# Altium footprint library SAMTEC_QSH-060-01-X-D-A.PcbLib: 1 footprints
Each footprint in its own frame and in the unit in brackets; x right, y up, seen from the top. Pads: shape width x height; smd on the part's side, far side on the other; paste and mask are expansions set on the pad; w line width, h text height; cw(c..) or ccw(c..) is an arc to the next point about the centre after c.
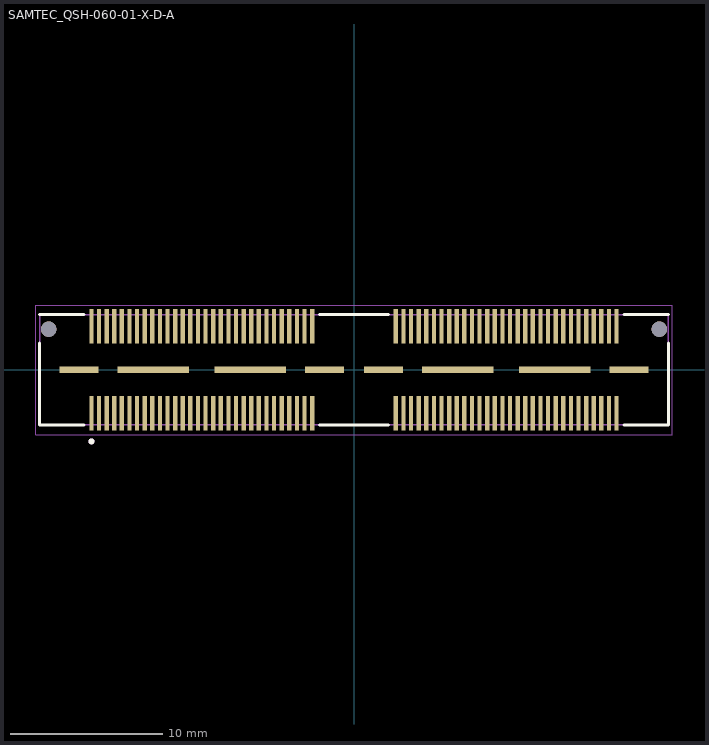
[diagram p0: the footprint, top view; thin cyan lines are the x and y axes]

## SAMTEC_QSH-060-01-X-D-A [mm]
pads (130):
  rect 0.279x2.27 smd: 01(-17.253,-2.865) 02(-17.253,2.865) 03(-16.753,-2.865) 04(-16.753,2.865) 05(-16.253,-2.865) 06(-16.253,2.865) 07(-15.753,-2.865) 08(-15.753,2.865) 09(-15.252,-2.865) 10(-15.252,2.865) 11(-14.752,-2.865) 12(-14.752,2.865) 13(-14.252,-2.865) 14(-14.252,2.865) 15(-13.752,-2.865) 16(-13.752,2.865) 17(-13.252,-2.865) 18(-13.252,2.865) 19(-12.752,-2.865) 20(-12.752,2.865) 21(-12.252,-2.865) 22(-12.252,2.865) 23(-11.752,-2.865) 24(-11.752,2.865) 25(-11.252,-2.865) 26(-11.252,2.865) 27(-10.752,-2.865) 28(-10.752,2.865) 29(-10.252,-2.865) 30(-10.252,2.865) 31(-9.751,-2.865) 32(-9.751,2.865) 33(-9.251,-2.865) 34(-9.251,2.865) 35(-8.751,-2.865) 36(-8.751,2.865) 37(-8.251,-2.865) 38(-8.251,2.865) 39(-7.751,-2.865) 40(-7.751,2.865) 41(-7.251,-2.865) 42(-7.251,2.865) 43(-6.751,-2.865) 44(-6.751,2.865) 45(-6.251,-2.865) 46(-6.251,2.865) 47(-5.751,-2.865) 48(-5.751,2.865) 49(-5.251,-2.865) 50(-5.251,2.865) 51(-4.75,-2.865) 52(-4.75,2.865) 53(-4.25,-2.865) 54(-4.25,2.865) 55(-3.75,-2.865) 56(-3.75,2.865) 57(-3.25,-2.865) 58(-3.25,2.865) 59(-2.75,-2.865) 60(-2.75,2.865) 61(2.75,-2.865) 62(2.75,2.865) 63(3.25,-2.865) 64(3.25,2.865) 65(3.75,-2.865) 66(3.75,2.865) 67(4.25,-2.865) 68(4.25,2.865) 69(4.75,-2.865) 70(4.75,2.865) 71(5.251,-2.865) 72(5.251,2.865) 73(5.751,-2.865) 74(5.751,2.865) 75(6.251,-2.865) 76(6.251,2.865) 77(6.751,-2.865) 78(6.751,2.865) 79(7.251,-2.865) 80(7.251,2.865) 81(7.751,-2.865) 82(7.751,2.865) 83(8.251,-2.865) 84(8.251,2.865) 85(8.751,-2.865) 86(8.751,2.865) 87(9.251,-2.865) 88(9.251,2.865) 89(9.751,-2.865) 90(9.751,2.865) 91(10.252,-2.865) 92(10.252,2.865) 93(10.752,-2.865) 94(10.752,2.865) 95(11.252,-2.865) 96(11.252,2.865) 97(11.752,-2.865) 98(11.752,2.865) 99(12.252,-2.865) 100(12.252,2.865) 101(12.752,-2.865) 102(12.752,2.865) 103(13.252,-2.865) 104(13.252,2.865) 105(13.752,-2.865) 106(13.752,2.865) 107(14.252,-2.865) 108(14.252,2.865) 109(14.752,-2.865) 110(14.752,2.865) 111(15.252,-2.865) 112(15.252,2.865) 113(15.753,-2.865) 114(15.753,2.865) 115(16.253,-2.865) 116(16.253,2.865) 117(16.753,-2.865) 118(16.753,2.865) 119(17.253,-2.865) 120(17.253,2.865)
  rect 2.54x0.43 smd: G1_1(-18.066,0) G1_4(-1.937,0) G2_1(1.937,0) G2_4(18.066,0)
  rect 4.7x0.43 smd: G1_2(-13.176,0) G1_3(-6.826,0) G2_2(6.826,0) G2_3(13.176,0)
  round 1.02 hole 1.02 unplated: ""(-20.065,2.67) ""(20.065,2.67)
Top Overlay:
  circle w0.2: c-17.253,-4.7 r0.1
  lines w0.2: -20.655,1.75 -20.655,-3.62 -17.75,-3.62 ; -20.655,3.62 -17.75,3.62 ; -2.26,-3.62 2.26,-3.62 ; -2.26,3.62 2.26,3.62 ; 17.75,-3.62 20.655,-3.62 20.655,1.75 ; 17.75,3.62 20.655,3.62
Mechanical 13:
  circle w0.2: c-17.253,-4.7 r0.1
  lines w0.1: -20.655,-3.62 -20.655,3.62 20.655,3.62 20.655,-3.62 -20.655,-3.62
Mechanical 15:
  lines w0.05: -20.905,-4.25 -20.905,4.25 20.905,4.25 20.905,-4.25 -20.905,-4.25
3D body "QSH-060-01-F-D-A.stp": height 3.05, standoff -0.95, extent -20.574,-3.747 20.739,3.747